# Altium integrated library Linear Technology Power Management Switching Regulator LT1074-LT8705.IntLib: 2252 symbols (part 1 of 148)
Pins are listed as number, name and electrical type; pins without a type are passive.

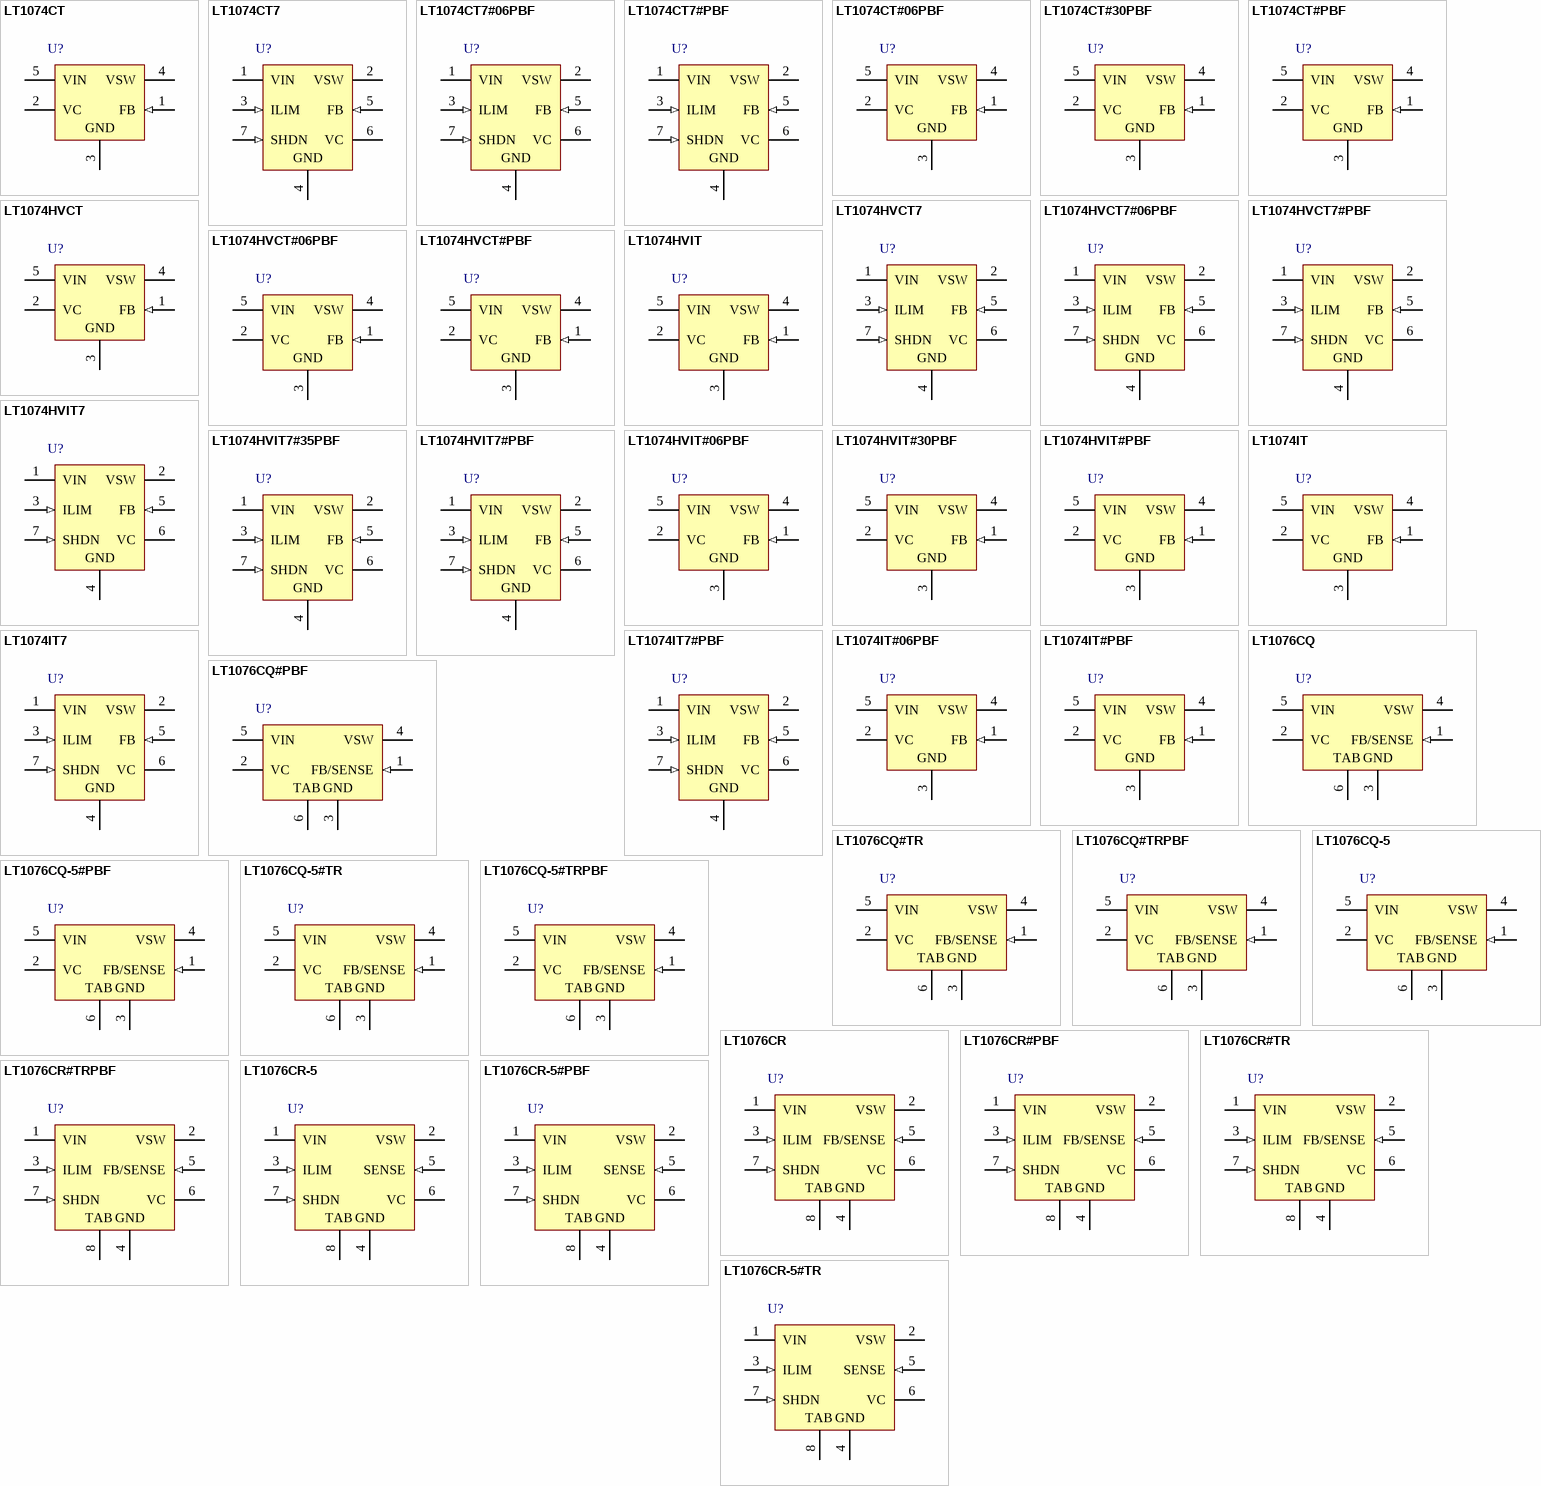
[diagram p0: symbols LT1074CT to LT1076CR-5#TR]

## LT1074CT
designator U?
Step-Down Switching Regulator, 5-pin FM (T-5), 0 to 70 degC; Manufacturer: Linear Technology; PartNumber: LT1074CT; Number of Outputs: 1; DatasheetVersion: Rev. D; PackageVersion: Aug-10; PackageReference: T-5; PackageDescription: 5-Pin Plastic TO-220 (Standard), Body 10.224 x 8.89 mm, Pitch 1.7 mm; Supplier 1: Digi-Key; Supplier Part Number 1: LT1074CT-ND; Supplier 2: Newark; Supplier Part Number 2: 57M1300; RoHS: FALSE; Mounting Technology: Through Hole; ComponentLink1Description: Manufacturer URL; ComponentLink1URL: http://www.linear.com/; ComponentLink2Description: Datasheet; ComponentLink2URL: http://cds.linear.com/docs/en/datasheet/1074fds.pdf; ComponentLink3Description: Package Specification; ComponentLink3URL: http://cds.linear.com/docs/en/packaging/TO-220_5_05-08-1421.pdf
footprint LT-T-5-S (FM, 5-Leads, Body 10.55x4.6mm, Pitch 1.7mm)
pins: 1 FB (in) "The feedback pin is the inverting input of an error amplifier which controls the regulator output by adjusting duty cycle. The noninverting input is internally connected to a trimmed 2.21V reference. Input bias current is (See Datasheet)", 2 VC, 3 GND (power) "It might seem unusual to describe a ground pin, but in the case of regulators, the ground pin must be connected properly to ensure good load regulation. The internal reference voltage is referenced to the ground pin; so any (See Datasheet)", 4 VSW (power), 5 VIN (power) "The VIN pin is both the supply voltage for internal control circuitry and one end of the high current switch. It is important, especially at low input voltages, that this pin be bypassed with a low ESR, and low inductance (See Datasheet)"

## LT1074CT7
designator U?
Step-Down Switching Regulator, 7-pin FM (T7-7), 0 to 70 degC; Manufacturer: Linear Technology; PartNumber: LT1074CT7; Number of Outputs: 1; DatasheetVersion: Rev. D; PackageVersion: Jun-10; PackageReference: T7-7; PackageDescription: 7-Pin Plastic TO-220 (Straight Lead), Body 10.224 x 4.382 mm, Pitch 1.27 mm; Supplier 1: Digi-Key; Supplier Part Number 1: LT1074CT7-ND; RoHS: FALSE; Mounting Technology: Through Hole; ComponentLink1Description: Manufacturer URL; ComponentLink1URL: http://www.linear.com/; ComponentLink2Description: Datasheet; ComponentLink2URL: http://cds.linear.com/docs/en/datasheet/1074fds.pdf; ComponentLink3Description: Package Specification; ComponentLink3URL: http://www.linear.com/docs/en/packaging/TO-220_7_05-08-1422_STRAIGHT_LEAD.pdf
footprint LT-T7-7-S_V (FM, 7-Leads, Body 10.55x4.6mm, Pitch 1.27mm)
pins: 1 VIN (power) "The VIN pin is both the supply voltage for internal control circuitry and one end of the high current switch.", 2 VSW (power), 3 ILIM (in) "The ILIM pin is used to reduce current limit below the preset value of 6.5A.", 4 GND (power) "It might seem unusual to describe a ground pin, but in the case of regulators, the ground pin must be connected properly to ensure good load regulation.", 5 FB (in) "The feedback pin is the inverting input of an error amplifier which controls the regulator output by adjusting duty cycle.", 6 VC, 7 SHDN (in) "The shutdown pin is used for undervoltage lockout, micropower shutdown, soft-start, delayed start, or as a general purpose on/off control of the regulator output."

## LT1074CT7#06PBF
designator U?
Step-Down Switching Regulator, 7-pin FM (T7-7), 0 to 70 degC, Pb-Free; Manufacturer: Linear Technology; PartNumber: LT1074CT7#06PBF; Number of Outputs: 1; DatasheetVersion: Rev. D; PackageVersion: Jun-10; PackageReference: T7-7; PackageDescription: 7-Pin Plastic TO-220 (Straight Lead), Body 10.224 x 4.382 mm, Pitch 1.27 mm; Supplier 1: Digi-Key; Supplier Part Number 1: LT1074CT7#06PBF-ND; Supplier 2: Newark; Supplier Part Number 2: 44W8459; RoHS: TRUE; Mounting Technology: Through Hole; ComponentLink1Description: Manufacturer URL; ComponentLink1URL: http://www.linear.com/; ComponentLink2Description: Datasheet; ComponentLink2URL: http://cds.linear.com/docs/en/datasheet/1074fds.pdf; ComponentLink3Description: Package Specification; ComponentLink3URL: http://www.linear.com/docs/en/packaging/TO-220_7_05-08-1422_STRAIGHT_LEAD.pdf
footprint LT-T7-7-S_V (FM, 7-Leads, Body 10.55x4.6mm, Pitch 1.27mm)
pins: 1 VIN (power) "The VIN pin is both the supply voltage for internal control circuitry and one end of the high current switch.", 2 VSW (power), 3 ILIM (in) "The ILIM pin is used to reduce current limit below the preset value of 6.5A.", 4 GND (power) "It might seem unusual to describe a ground pin, but in the case of regulators, the ground pin must be connected properly to ensure good load regulation.", 5 FB (in) "The feedback pin is the inverting input of an error amplifier which controls the regulator output by adjusting duty cycle.", 6 VC, 7 SHDN (in) "The shutdown pin is used for undervoltage lockout, micropower shutdown, soft-start, delayed start, or as a general purpose on/off control of the regulator output."

## LT1074CT7#PBF
designator U?
Step-Down Switching Regulator, 7-pin FM (T7-7), 0 to 70 degC, Pb-Free; Manufacturer: Linear Technology; PartNumber: LT1074CT7#PBF; Number of Outputs: 1; DatasheetVersion: Rev. D; PackageVersion: Jun-10; PackageReference: T7-7; PackageDescription: 7-Pin Plastic TO-220 (Straight Lead), Body 10.224 x 4.382 mm, Pitch 1.27 mm; Supplier 1: Digi-Key; Supplier Part Number 1: LT1074CT7#PBF-ND; Supplier 2: Farnell; Supplier Part Number 2: 1273665; Supplier 3: Newark; Supplier Part Number 3: 57M1303; RoHS: TRUE; Mounting Technology: Through Hole; ComponentLink1Description: Manufacturer URL; ComponentLink1URL: http://www.linear.com/; ComponentLink2Description: Datasheet; ComponentLink2URL: http://cds.linear.com/docs/en/datasheet/1074fds.pdf; ComponentLink3Description: Package Specification; ComponentLink3URL: http://www.linear.com/docs/en/packaging/TO-220_7_05-08-1422_STRAIGHT_LEAD.pdf
footprint LT-T7-7-S_V (FM, 7-Leads, Body 10.55x4.6mm, Pitch 1.27mm)
pins: 1 VIN (power) "The VIN pin is both the supply voltage for internal control circuitry and one end of the high current switch.", 2 VSW (power), 3 ILIM (in) "The ILIM pin is used to reduce current limit below the preset value of 6.5A.", 4 GND (power) "It might seem unusual to describe a ground pin, but in the case of regulators, the ground pin must be connected properly to ensure good load regulation.", 5 FB (in) "The feedback pin is the inverting input of an error amplifier which controls the regulator output by adjusting duty cycle.", 6 VC, 7 SHDN (in) "The shutdown pin is used for undervoltage lockout, micropower shutdown, soft-start, delayed start, or as a general purpose on/off control of the regulator output."

## LT1074CT#06PBF
designator U?
Step-Down Switching Regulator, 5-pin FM (T-5), 0 to 70 degC, Pb-Free; Manufacturer: Linear Technology; PartNumber: LT1074CT#06PBF; Number of Outputs: 1; DatasheetVersion: Rev. D; PackageVersion: Aug-10; PackageReference: T-5; PackageDescription: 5-Pin Plastic TO-220 (Standard), Body 10.224 x 8.89 mm, Pitch 1.7 mm; Supplier 1: Digi-Key; Supplier Part Number 1: LT1074CT#06PBF-ND; Supplier 2: Newark; Supplier Part Number 2: 44W8458; RoHS: TRUE; Mounting Technology: Through Hole; ComponentLink1Description: Manufacturer URL; ComponentLink1URL: http://www.linear.com/; ComponentLink2Description: Datasheet; ComponentLink2URL: http://cds.linear.com/docs/en/datasheet/1074fds.pdf; ComponentLink3Description: Package Specification; ComponentLink3URL: http://cds.linear.com/docs/en/packaging/TO-220_5_05-08-1421.pdf
footprint LT-T-5-S (FM, 5-Leads, Body 10.55x4.6mm, Pitch 1.7mm)
pins: 1 FB (in) "The feedback pin is the inverting input of an error amplifier which controls the regulator output by adjusting duty cycle. The noninverting input is internally connected to a trimmed 2.21V reference. Input bias current is (See Datasheet)", 2 VC, 3 GND (power) "It might seem unusual to describe a ground pin, but in the case of regulators, the ground pin must be connected properly to ensure good load regulation. The internal reference voltage is referenced to the ground pin; so any (See Datasheet)", 4 VSW (power), 5 VIN (power) "The VIN pin is both the supply voltage for internal control circuitry and one end of the high current switch. It is important, especially at low input voltages, that this pin be bypassed with a low ESR, and low inductance (See Datasheet)"

## LT1074CT#30PBF
designator U?
Step-Down Switching Regulator, 5-pin FM (T-5), 0 to 70 degC, Pb-Free; Manufacturer: Linear Technology; PartNumber: LT1074CT#30PBF; Number of Outputs: 1; DatasheetVersion: Rev. D; PackageVersion: Aug-10; PackageReference: T-5; PackageDescription: 5-Pin Plastic TO-220 (Standard), Body 10.224 x 8.89 mm, Pitch 1.7 mm; Supplier 1: Digi-Key; Supplier Part Number 1: LT1074CT#30PBF-ND; Supplier 2: Newark; Supplier Part Number 2: 94T2254; RoHS: TRUE; Mounting Technology: Through Hole; ComponentLink1Description: Manufacturer URL; ComponentLink1URL: http://www.linear.com/; ComponentLink2Description: Datasheet; ComponentLink2URL: http://cds.linear.com/docs/en/datasheet/1074fds.pdf; ComponentLink3Description: Package Specification; ComponentLink3URL: http://cds.linear.com/docs/en/packaging/TO-220_5_05-08-1421.pdf
footprint LT-T-5-S (FM, 5-Leads, Body 10.55x4.6mm, Pitch 1.7mm)
pins: 1 FB (in) "The feedback pin is the inverting input of an error amplifier which controls the regulator output by adjusting duty cycle. The noninverting input is internally connected to a trimmed 2.21V reference. Input bias current is (See Datasheet)", 2 VC, 3 GND (power) "It might seem unusual to describe a ground pin, but in the case of regulators, the ground pin must be connected properly to ensure good load regulation. The internal reference voltage is referenced to the ground pin; so any (See Datasheet)", 4 VSW (power), 5 VIN (power) "The VIN pin is both the supply voltage for internal control circuitry and one end of the high current switch. It is important, especially at low input voltages, that this pin be bypassed with a low ESR, and low inductance (See Datasheet)"

## LT1074CT#PBF
designator U?
Step-Down Switching Regulator, 5-pin FM (T-5), 0 to 70 degC, Pb-Free; Manufacturer: Linear Technology; PartNumber: LT1074CT#PBF; Number of Outputs: 1; DatasheetVersion: Rev. D; PackageVersion: Aug-10; PackageReference: T-5; PackageDescription: 5-Pin Plastic TO-220 (Standard), Body 10.224 x 8.89 mm, Pitch 1.7 mm; Supplier 1: Digi-Key; Supplier Part Number 1: LT1074CT#PBF-ND; Supplier 2: Farnell; Supplier Part Number 2: 9559604; Supplier 3: Newark; Supplier Part Number 3: 57M1301; RoHS: TRUE; Mounting Technology: Through Hole; ComponentLink1Description: Manufacturer URL; ComponentLink1URL: http://www.linear.com/; ComponentLink2Description: Datasheet; ComponentLink2URL: http://cds.linear.com/docs/en/datasheet/1074fds.pdf; ComponentLink3Description: Package Specification; ComponentLink3URL: http://cds.linear.com/docs/en/packaging/TO-220_5_05-08-1421.pdf
footprint LT-T-5-S (FM, 5-Leads, Body 10.55x4.6mm, Pitch 1.7mm)
pins: 1 FB (in) "The feedback pin is the inverting input of an error amplifier which controls the regulator output by adjusting duty cycle. The noninverting input is internally connected to a trimmed 2.21V reference. Input bias current is (See Datasheet)", 2 VC, 3 GND (power) "It might seem unusual to describe a ground pin, but in the case of regulators, the ground pin must be connected properly to ensure good load regulation. The internal reference voltage is referenced to the ground pin; so any (See Datasheet)", 4 VSW (power), 5 VIN (power) "The VIN pin is both the supply voltage for internal control circuitry and one end of the high current switch. It is important, especially at low input voltages, that this pin be bypassed with a low ESR, and low inductance (See Datasheet)"

## LT1074HVCT
designator U?
Step-Down Switching Regulator, 5-pin FM (T-5), 0 to 70 degC; Manufacturer: Linear Technology; PartNumber: LT1074HVCT; Number of Outputs: 1; DatasheetVersion: Rev. D; PackageVersion: Aug-10; PackageReference: T-5; PackageDescription: 5-Pin Plastic TO-220 (Standard), Body 10.224 x 8.89 mm, Pitch 1.7 mm; Supplier 1: Digi-Key; Supplier Part Number 1: LT1074HVCT-ND; Supplier 2: Newark; Supplier Part Number 2: 57M1305; RoHS: FALSE; Mounting Technology: Through Hole; ComponentLink1Description: Manufacturer URL; ComponentLink1URL: http://www.linear.com/; ComponentLink2Description: Datasheet; ComponentLink2URL: http://cds.linear.com/docs/en/datasheet/1074fds.pdf; ComponentLink3Description: Package Specification; ComponentLink3URL: http://cds.linear.com/docs/en/packaging/TO-220_5_05-08-1421.pdf
footprint LT-T-5-S (FM, 5-Leads, Body 10.55x4.6mm, Pitch 1.7mm)
pins: 1 FB (in) "The feedback pin is the inverting input of an error amplifier which controls the regulator output by adjusting duty cycle. The noninverting input is internally connected to a trimmed 2.21V reference. Input bias current is (See Datasheet)", 2 VC, 3 GND (power) "It might seem unusual to describe a ground pin, but in the case of regulators, the ground pin must be connected properly to ensure good load regulation. The internal reference voltage is referenced to the ground pin; so any (See Datasheet)", 4 VSW (power), 5 VIN (power) "The VIN pin is both the supply voltage for internal control circuitry and one end of the high current switch. It is important, especially at low input voltages, that this pin be bypassed with a low ESR, and low inductance (See Datasheet)"

## LT1074HVCT7
designator U?
Step-Down Switching Regulator, 7-pin FM (T7-7), 0 to 70 degC; Manufacturer: Linear Technology; PartNumber: LT1074HVCT7; Number of Outputs: 1; DatasheetVersion: Rev. D; PackageVersion: Jun-10; PackageReference: T7-7; PackageDescription: 7-Pin Plastic TO-220 (Straight Lead), Body 10.224 x 4.382 mm, Pitch 1.27 mm; Supplier 1: Digi-Key; Supplier Part Number 1: LT1074HVCT7-ND; RoHS: FALSE; Mounting Technology: Through Hole; ComponentLink1Description: Manufacturer URL; ComponentLink1URL: http://www.linear.com/; ComponentLink2Description: Datasheet; ComponentLink2URL: http://cds.linear.com/docs/en/datasheet/1074fds.pdf; ComponentLink3Description: Package Specification; ComponentLink3URL: http://www.linear.com/docs/en/packaging/TO-220_7_05-08-1422_STRAIGHT_LEAD.pdf
footprint LT-T7-7-S_V (FM, 7-Leads, Body 10.55x4.6mm, Pitch 1.27mm)
pins: 1 VIN (power) "The VIN pin is both the supply voltage for internal control circuitry and one end of the high current switch.", 2 VSW (power), 3 ILIM (in) "The ILIM pin is used to reduce current limit below the preset value of 6.5A.", 4 GND (power) "It might seem unusual to describe a ground pin, but in the case of regulators, the ground pin must be connected properly to ensure good load regulation.", 5 FB (in) "The feedback pin is the inverting input of an error amplifier which controls the regulator output by adjusting duty cycle.", 6 VC, 7 SHDN (in) "The shutdown pin is used for undervoltage lockout, micropower shutdown, soft-start, delayed start, or as a general purpose on/off control of the regulator output."

## LT1074HVCT7#06PBF
designator U?
Step-Down Switching Regulator, 7-pin FM (T7-7), 0 to 70 degC, Pb-Free; Manufacturer: Linear Technology; PartNumber: LT1074HVCT7#06PBF; Number of Outputs: 1; DatasheetVersion: Rev. D; PackageVersion: Jun-10; PackageReference: T7-7; PackageDescription: 7-Pin Plastic TO-220 (Straight Lead), Body 10.224 x 4.382 mm, Pitch 1.27 mm; Supplier 1: Digi-Key; Supplier Part Number 1: LT1074HVCT7#06PBF-ND; Supplier 2: Newark; Supplier Part Number 2: 44W8460; RoHS: TRUE; Mounting Technology: Through Hole; ComponentLink1Description: Manufacturer URL; ComponentLink1URL: http://www.linear.com/; ComponentLink2Description: Datasheet; ComponentLink2URL: http://cds.linear.com/docs/en/datasheet/1074fds.pdf; ComponentLink3Description: Package Specification; ComponentLink3URL: http://www.linear.com/docs/en/packaging/TO-220_7_05-08-1422_STRAIGHT_LEAD.pdf
footprint LT-T7-7-S_V (FM, 7-Leads, Body 10.55x4.6mm, Pitch 1.27mm)
pins: 1 VIN (power) "The VIN pin is both the supply voltage for internal control circuitry and one end of the high current switch.", 2 VSW (power), 3 ILIM (in) "The ILIM pin is used to reduce current limit below the preset value of 6.5A.", 4 GND (power) "It might seem unusual to describe a ground pin, but in the case of regulators, the ground pin must be connected properly to ensure good load regulation.", 5 FB (in) "The feedback pin is the inverting input of an error amplifier which controls the regulator output by adjusting duty cycle.", 6 VC, 7 SHDN (in) "The shutdown pin is used for undervoltage lockout, micropower shutdown, soft-start, delayed start, or as a general purpose on/off control of the regulator output."

## LT1074HVCT7#PBF
designator U?
Step-Down Switching Regulator, 7-pin FM (T7-7), 0 to 70 degC, Pb-Free; Manufacturer: Linear Technology; PartNumber: LT1074HVCT7#PBF; Number of Outputs: 1; DatasheetVersion: Rev. D; PackageVersion: Jun-10; PackageReference: T7-7; PackageDescription: 7-Pin Plastic TO-220 (Straight Lead), Body 10.224 x 4.382 mm, Pitch 1.27 mm; Supplier 1: Digi-Key; Supplier Part Number 1: LT1074HVCT7#PBF-ND; Supplier 2: Farnell; Supplier Part Number 2: 2115854; Supplier 3: Newark; Supplier Part Number 3: 57M1310; RoHS: TRUE; Mounting Technology: Through Hole; ComponentLink1Description: Manufacturer URL; ComponentLink1URL: http://www.linear.com/; ComponentLink2Description: Datasheet; ComponentLink2URL: http://cds.linear.com/docs/en/datasheet/1074fds.pdf; ComponentLink3Description: Package Specification; ComponentLink3URL: http://www.linear.com/docs/en/packaging/TO-220_7_05-08-1422_STRAIGHT_LEAD.pdf
footprint LT-T7-7-S_V (FM, 7-Leads, Body 10.55x4.6mm, Pitch 1.27mm)
pins: 1 VIN (power) "The VIN pin is both the supply voltage for internal control circuitry and one end of the high current switch.", 2 VSW (power), 3 ILIM (in) "The ILIM pin is used to reduce current limit below the preset value of 6.5A.", 4 GND (power) "It might seem unusual to describe a ground pin, but in the case of regulators, the ground pin must be connected properly to ensure good load regulation.", 5 FB (in) "The feedback pin is the inverting input of an error amplifier which controls the regulator output by adjusting duty cycle.", 6 VC, 7 SHDN (in) "The shutdown pin is used for undervoltage lockout, micropower shutdown, soft-start, delayed start, or as a general purpose on/off control of the regulator output."

## LT1074HVCT#06PBF
designator U?
Step-Down Switching Regulator, 5-pin FM (T-5), 0 to 70 degC, Pb-Free; Manufacturer: Linear Technology; PartNumber: LT1074HVCT#06PBF; Number of Outputs: 1; DatasheetVersion: Rev. D; PackageVersion: Aug-10; PackageReference: T-5; PackageDescription: 5-Pin Plastic TO-220 (Standard), Body 10.224 x 8.89 mm, Pitch 1.7 mm; Supplier 1: Digi-Key; Supplier Part Number 1: LT1074HVCT#06PBF-ND; Supplier 2: Farnell; Supplier Part Number 2: 2211402; Supplier 3: Newark; Supplier Part Number 3: 57M1308; RoHS: TRUE; Mounting Technology: Through Hole; ComponentLink1Description: Manufacturer URL; ComponentLink1URL: http://www.linear.com/; ComponentLink2Description: Datasheet; ComponentLink2URL: http://cds.linear.com/docs/en/datasheet/1074fds.pdf; ComponentLink3Description: Package Specification; ComponentLink3URL: http://cds.linear.com/docs/en/packaging/TO-220_5_05-08-1421.pdf
footprint LT-T-5-S (FM, 5-Leads, Body 10.55x4.6mm, Pitch 1.7mm)
pins: 1 FB (in) "The feedback pin is the inverting input of an error amplifier which controls the regulator output by adjusting duty cycle. The noninverting input is internally connected to a trimmed 2.21V reference. Input bias current is (See Datasheet)", 2 VC, 3 GND (power) "It might seem unusual to describe a ground pin, but in the case of regulators, the ground pin must be connected properly to ensure good load regulation. The internal reference voltage is referenced to the ground pin; so any (See Datasheet)", 4 VSW (power), 5 VIN (power) "The VIN pin is both the supply voltage for internal control circuitry and one end of the high current switch. It is important, especially at low input voltages, that this pin be bypassed with a low ESR, and low inductance (See Datasheet)"

## LT1074HVCT#PBF
designator U?
Step-Down Switching Regulator, 5-pin FM (T-5), 0 to 70 degC, Pb-Free; Manufacturer: Linear Technology; PartNumber: LT1074HVCT#PBF; Number of Outputs: 1; DatasheetVersion: Rev. D; PackageVersion: Aug-10; PackageReference: T-5; PackageDescription: 5-Pin Plastic TO-220 (Standard), Body 10.224 x 8.89 mm, Pitch 1.7 mm; Supplier 1: Digi-Key; Supplier Part Number 1: LT1074HVCT#PBF-ND; Supplier 2: Farnell; Supplier Part Number 2: 9559612; Supplier 3: Newark; Supplier Part Number 3: 57M1306; RoHS: TRUE; Mounting Technology: Through Hole; ComponentLink1Description: Manufacturer URL; ComponentLink1URL: http://www.linear.com/; ComponentLink2Description: Datasheet; ComponentLink2URL: http://cds.linear.com/docs/en/datasheet/1074fds.pdf; ComponentLink3Description: Package Specification; ComponentLink3URL: http://cds.linear.com/docs/en/packaging/TO-220_5_05-08-1421.pdf
footprint LT-T-5-S (FM, 5-Leads, Body 10.55x4.6mm, Pitch 1.7mm)
pins: 1 FB (in) "The feedback pin is the inverting input of an error amplifier which controls the regulator output by adjusting duty cycle. The noninverting input is internally connected to a trimmed 2.21V reference. Input bias current is (See Datasheet)", 2 VC, 3 GND (power) "It might seem unusual to describe a ground pin, but in the case of regulators, the ground pin must be connected properly to ensure good load regulation. The internal reference voltage is referenced to the ground pin; so any (See Datasheet)", 4 VSW (power), 5 VIN (power) "The VIN pin is both the supply voltage for internal control circuitry and one end of the high current switch. It is important, especially at low input voltages, that this pin be bypassed with a low ESR, and low inductance (See Datasheet)"

## LT1074HVIT
designator U?
Step-Down Switching Regulator, 5-pin FM (T-5), -40 to 85 degC; Manufacturer: Linear Technology; PartNumber: LT1074HVIT; Number of Outputs: 1; DatasheetVersion: Rev. D; PackageVersion: Aug-10; PackageReference: T-5; PackageDescription: 5-Pin Plastic TO-220 (Standard), Body 10.224 x 8.89 mm, Pitch 1.7 mm; Supplier 1: Digi-Key; Supplier Part Number 1: LT1074HVIT-ND; RoHS: FALSE; Mounting Technology: Through Hole; ComponentLink1Description: Manufacturer URL; ComponentLink1URL: http://www.linear.com/; ComponentLink2Description: Datasheet; ComponentLink2URL: http://cds.linear.com/docs/en/datasheet/1074fds.pdf; ComponentLink3Description: Package Specification; ComponentLink3URL: http://cds.linear.com/docs/en/packaging/TO-220_5_05-08-1421.pdf
footprint LT-T-5-S (FM, 5-Leads, Body 10.55x4.6mm, Pitch 1.7mm)
pins: 1 FB (in) "The feedback pin is the inverting input of an error amplifier which controls the regulator output by adjusting duty cycle. The noninverting input is internally connected to a trimmed 2.21V reference. Input bias current is (See Datasheet)", 2 VC, 3 GND (power) "It might seem unusual to describe a ground pin, but in the case of regulators, the ground pin must be connected properly to ensure good load regulation. The internal reference voltage is referenced to the ground pin; so any (See Datasheet)", 4 VSW (power), 5 VIN (power) "The VIN pin is both the supply voltage for internal control circuitry and one end of the high current switch. It is important, especially at low input voltages, that this pin be bypassed with a low ESR, and low inductance (See Datasheet)"

## LT1074HVIT7
designator U?
Step-Down Switching Regulator, 7-pin FM (T7-7), -40 to 85 degC; Manufacturer: Linear Technology; PartNumber: LT1074HVIT7; Number of Outputs: 1; DatasheetVersion: Rev. D; PackageVersion: Jun-10; PackageReference: T7-7; PackageDescription: 7-Pin Plastic TO-220 (Straight Lead), Body 10.224 x 4.382 mm, Pitch 1.27 mm; Supplier 1: Digi-Key; Supplier Part Number 1: LT1074HVIT7-ND; RoHS: FALSE; Mounting Technology: Through Hole; ComponentLink1Description: Manufacturer URL; ComponentLink1URL: http://www.linear.com/; ComponentLink2Description: Datasheet; ComponentLink2URL: http://cds.linear.com/docs/en/datasheet/1074fds.pdf; ComponentLink3Description: Package Specification; ComponentLink3URL: http://www.linear.com/docs/en/packaging/TO-220_7_05-08-1422_STRAIGHT_LEAD.pdf
footprint LT-T7-7-S_V (FM, 7-Leads, Body 10.55x4.6mm, Pitch 1.27mm)
pins: 1 VIN (power) "The VIN pin is both the supply voltage for internal control circuitry and one end of the high current switch.", 2 VSW (power), 3 ILIM (in) "The ILIM pin is used to reduce current limit below the preset value of 6.5A.", 4 GND (power) "It might seem unusual to describe a ground pin, but in the case of regulators, the ground pin must be connected properly to ensure good load regulation.", 5 FB (in) "The feedback pin is the inverting input of an error amplifier which controls the regulator output by adjusting duty cycle.", 6 VC, 7 SHDN (in) "The shutdown pin is used for undervoltage lockout, micropower shutdown, soft-start, delayed start, or as a general purpose on/off control of the regulator output."

## LT1074HVIT7#35PBF
designator U?
Step-Down Switching Regulator, 7-pin FM (T7-7), -40 to 85 degC, Pb-Free; Manufacturer: Linear Technology; PartNumber: LT1074HVIT7#35PBF; Number of Outputs: 1; DatasheetVersion: Rev. D; PackageVersion: Jun-10; PackageReference: T7-7; PackageDescription: 7-Pin Plastic TO-220 (Straight Lead), Body 10.224 x 4.382 mm, Pitch 1.27 mm; Supplier 1: Digi-Key; Supplier Part Number 1: LT1074HVIT7#35PBF-ND; Supplier 2: Newark; Supplier Part Number 2: 87T9237; RoHS: TRUE; Mounting Technology: Through Hole; ComponentLink1Description: Manufacturer URL; ComponentLink1URL: http://www.linear.com/; ComponentLink2Description: Datasheet; ComponentLink2URL: http://cds.linear.com/docs/en/datasheet/1074fds.pdf; ComponentLink3Description: Package Specification; ComponentLink3URL: http://www.linear.com/docs/en/packaging/TO-220_7_05-08-1422_STRAIGHT_LEAD.pdf
footprint LT-T7-7-S_V (FM, 7-Leads, Body 10.55x4.6mm, Pitch 1.27mm)
pins: 1 VIN (power) "The VIN pin is both the supply voltage for internal control circuitry and one end of the high current switch.", 2 VSW (power), 3 ILIM (in) "The ILIM pin is used to reduce current limit below the preset value of 6.5A.", 4 GND (power) "It might seem unusual to describe a ground pin, but in the case of regulators, the ground pin must be connected properly to ensure good load regulation.", 5 FB (in) "The feedback pin is the inverting input of an error amplifier which controls the regulator output by adjusting duty cycle.", 6 VC, 7 SHDN (in) "The shutdown pin is used for undervoltage lockout, micropower shutdown, soft-start, delayed start, or as a general purpose on/off control of the regulator output."

## LT1074HVIT7#PBF
designator U?
Step-Down Switching Regulator, 7-pin FM (T7-7), -40 to 85 degC, Pb-Free; Manufacturer: Linear Technology; PartNumber: LT1074HVIT7#PBF; Number of Outputs: 1; DatasheetVersion: Rev. D; PackageVersion: Jun-10; PackageReference: T7-7; PackageDescription: 7-Pin Plastic TO-220 (Straight Lead), Body 10.224 x 4.382 mm, Pitch 1.27 mm; Supplier 1: Digi-Key; Supplier Part Number 1: LT1074HVIT7#PBF-ND; Supplier 2: Farnell; Supplier Part Number 2: 2211406; Supplier 3: Newark; Supplier Part Number 3: 57M1316; RoHS: TRUE; Mounting Technology: Through Hole; ComponentLink1Description: Manufacturer URL; ComponentLink1URL: http://www.linear.com/; ComponentLink2Description: Datasheet; ComponentLink2URL: http://cds.linear.com/docs/en/datasheet/1074fds.pdf; ComponentLink3Description: Package Specification; ComponentLink3URL: http://www.linear.com/docs/en/packaging/TO-220_7_05-08-1422_STRAIGHT_LEAD.pdf
footprint LT-T7-7-S_V (FM, 7-Leads, Body 10.55x4.6mm, Pitch 1.27mm)
pins: 1 VIN (power) "The VIN pin is both the supply voltage for internal control circuitry and one end of the high current switch.", 2 VSW (power), 3 ILIM (in) "The ILIM pin is used to reduce current limit below the preset value of 6.5A.", 4 GND (power) "It might seem unusual to describe a ground pin, but in the case of regulators, the ground pin must be connected properly to ensure good load regulation.", 5 FB (in) "The feedback pin is the inverting input of an error amplifier which controls the regulator output by adjusting duty cycle.", 6 VC, 7 SHDN (in) "The shutdown pin is used for undervoltage lockout, micropower shutdown, soft-start, delayed start, or as a general purpose on/off control of the regulator output."

## LT1074HVIT#06PBF
designator U?
Step-Down Switching Regulator, 5-pin FM (T-5), -40 to 85 degC, Pb-Free; Manufacturer: Linear Technology; PartNumber: LT1074HVIT#06PBF; Number of Outputs: 1; DatasheetVersion: Rev. D; PackageVersion: Aug-10; PackageReference: T-5; PackageDescription: 5-Pin Plastic TO-220 (Standard), Body 10.224 x 8.89 mm, Pitch 1.7 mm; Supplier 1: Digi-Key; Supplier Part Number 1: LT1074HVIT#06PBF-ND; Supplier 2: Farnell; Supplier Part Number 2: 2211404; Supplier 3: Newark; Supplier Part Number 3: 24W8465; RoHS: TRUE; Mounting Technology: Through Hole; ComponentLink1Description: Manufacturer URL; ComponentLink1URL: http://www.linear.com/; ComponentLink2Description: Datasheet; ComponentLink2URL: http://cds.linear.com/docs/en/datasheet/1074fds.pdf; ComponentLink3Description: Package Specification; ComponentLink3URL: http://cds.linear.com/docs/en/packaging/TO-220_5_05-08-1421.pdf
footprint LT-T-5-S (FM, 5-Leads, Body 10.55x4.6mm, Pitch 1.7mm)
pins: 1 FB (in) "The feedback pin is the inverting input of an error amplifier which controls the regulator output by adjusting duty cycle. The noninverting input is internally connected to a trimmed 2.21V reference. Input bias current is (See Datasheet)", 2 VC, 3 GND (power) "It might seem unusual to describe a ground pin, but in the case of regulators, the ground pin must be connected properly to ensure good load regulation. The internal reference voltage is referenced to the ground pin; so any (See Datasheet)", 4 VSW (power), 5 VIN (power) "The VIN pin is both the supply voltage for internal control circuitry and one end of the high current switch. It is important, especially at low input voltages, that this pin be bypassed with a low ESR, and low inductance (See Datasheet)"

## LT1074HVIT#30PBF
designator U?
Step-Down Switching Regulator, 5-pin FM (T-5), -40 to 85 degC, Pb-Free; Manufacturer: Linear Technology; PartNumber: LT1074HVIT#30PBF; Number of Outputs: 1; DatasheetVersion: Rev. D; PackageVersion: Aug-10; PackageReference: T-5; PackageDescription: 5-Pin Plastic TO-220 (Standard), Body 10.224 x 8.89 mm, Pitch 1.7 mm; Supplier 1: Digi-Key; Supplier Part Number 1: LT1074HVIT#30PBF-ND; RoHS: TRUE; Mounting Technology: Through Hole; ComponentLink1Description: Manufacturer URL; ComponentLink1URL: http://www.linear.com/; ComponentLink2Description: Datasheet; ComponentLink2URL: http://cds.linear.com/docs/en/datasheet/1074fds.pdf; ComponentLink3Description: Package Specification; ComponentLink3URL: http://cds.linear.com/docs/en/packaging/TO-220_5_05-08-1421.pdf
footprint LT-T-5-S (FM, 5-Leads, Body 10.55x4.6mm, Pitch 1.7mm)
pins: 1 FB (in) "The feedback pin is the inverting input of an error amplifier which controls the regulator output by adjusting duty cycle. The noninverting input is internally connected to a trimmed 2.21V reference. Input bias current is (See Datasheet)", 2 VC, 3 GND (power) "It might seem unusual to describe a ground pin, but in the case of regulators, the ground pin must be connected properly to ensure good load regulation. The internal reference voltage is referenced to the ground pin; so any (See Datasheet)", 4 VSW (power), 5 VIN (power) "The VIN pin is both the supply voltage for internal control circuitry and one end of the high current switch. It is important, especially at low input voltages, that this pin be bypassed with a low ESR, and low inductance (See Datasheet)"

## LT1074HVIT#PBF
designator U?
Step-Down Switching Regulator, 5-pin FM (T-5), -40 to 85 degC, Pb-Free; Manufacturer: Linear Technology; PartNumber: LT1074HVIT#PBF; Number of Outputs: 1; DatasheetVersion: Rev. D; PackageVersion: Aug-10; PackageReference: T-5; PackageDescription: 5-Pin Plastic TO-220 (Standard), Body 10.224 x 8.89 mm, Pitch 1.7 mm; Supplier 1: Digi-Key; Supplier Part Number 1: LT1074HVIT#PBF-ND; Supplier 2: Farnell; Supplier Part Number 2: 2211405; Supplier 3: Newark; Supplier Part Number 3: 57M1314; RoHS: TRUE; Mounting Technology: Through Hole; ComponentLink1Description: Manufacturer URL; ComponentLink1URL: http://www.linear.com/; ComponentLink2Description: Datasheet; ComponentLink2URL: http://cds.linear.com/docs/en/datasheet/1074fds.pdf; ComponentLink3Description: Package Specification; ComponentLink3URL: http://cds.linear.com/docs/en/packaging/TO-220_5_05-08-1421.pdf
footprint LT-T-5-S (FM, 5-Leads, Body 10.55x4.6mm, Pitch 1.7mm)
pins: 1 FB (in) "The feedback pin is the inverting input of an error amplifier which controls the regulator output by adjusting duty cycle. The noninverting input is internally connected to a trimmed 2.21V reference. Input bias current is (See Datasheet)", 2 VC, 3 GND (power) "It might seem unusual to describe a ground pin, but in the case of regulators, the ground pin must be connected properly to ensure good load regulation. The internal reference voltage is referenced to the ground pin; so any (See Datasheet)", 4 VSW (power), 5 VIN (power) "The VIN pin is both the supply voltage for internal control circuitry and one end of the high current switch. It is important, especially at low input voltages, that this pin be bypassed with a low ESR, and low inductance (See Datasheet)"

## LT1074IT
designator U?
Step-Down Switching Regulator, 5-pin FM (T-5), -40 to 85 degC; Manufacturer: Linear Technology; PartNumber: LT1074IT; Number of Outputs: 1; DatasheetVersion: Rev. D; PackageVersion: Aug-10; PackageReference: T-5; PackageDescription: 5-Pin Plastic TO-220 (Standard), Body 10.224 x 8.89 mm, Pitch 1.7 mm; Supplier 1: Digi-Key; Supplier Part Number 1: LT1074IT-ND; RoHS: FALSE; Mounting Technology: Through Hole; ComponentLink1Description: Manufacturer URL; ComponentLink1URL: http://www.linear.com/; ComponentLink2Description: Datasheet; ComponentLink2URL: http://cds.linear.com/docs/en/datasheet/1074fds.pdf; ComponentLink3Description: Package Specification; ComponentLink3URL: http://cds.linear.com/docs/en/packaging/TO-220_5_05-08-1421.pdf
footprint LT-T-5-S (FM, 5-Leads, Body 10.55x4.6mm, Pitch 1.7mm)
pins: 1 FB (in) "The feedback pin is the inverting input of an error amplifier which controls the regulator output by adjusting duty cycle. The noninverting input is internally connected to a trimmed 2.21V reference. Input bias current is (See Datasheet)", 2 VC, 3 GND (power) "It might seem unusual to describe a ground pin, but in the case of regulators, the ground pin must be connected properly to ensure good load regulation. The internal reference voltage is referenced to the ground pin; so any (See Datasheet)", 4 VSW (power), 5 VIN (power) "The VIN pin is both the supply voltage for internal control circuitry and one end of the high current switch. It is important, especially at low input voltages, that this pin be bypassed with a low ESR, and low inductance (See Datasheet)"

## LT1074IT7
designator U?
Step-Down Switching Regulator, 7-pin FM (T7-7), -40 to 85 degC; Manufacturer: Linear Technology; PartNumber: LT1074IT7; Number of Outputs: 1; DatasheetVersion: Rev. D; PackageVersion: Jun-10; PackageReference: T7-7; PackageDescription: 7-Pin Plastic TO-220 (Straight Lead), Body 10.224 x 4.382 mm, Pitch 1.27 mm; Supplier 1: Digi-Key; Supplier Part Number 1: LT1074IT7-ND; RoHS: FALSE; Mounting Technology: Through Hole; ComponentLink1Description: Manufacturer URL; ComponentLink1URL: http://www.linear.com/; ComponentLink2Description: Datasheet; ComponentLink2URL: http://cds.linear.com/docs/en/datasheet/1074fds.pdf; ComponentLink3Description: Package Specification; ComponentLink3URL: http://www.linear.com/docs/en/packaging/TO-220_7_05-08-1422_STRAIGHT_LEAD.pdf
footprint LT-T7-7-S_V (FM, 7-Leads, Body 10.55x4.6mm, Pitch 1.27mm)
pins: 1 VIN (power) "The VIN pin is both the supply voltage for internal control circuitry and one end of the high current switch.", 2 VSW (power), 3 ILIM (in) "The ILIM pin is used to reduce current limit below the preset value of 6.5A.", 4 GND (power) "It might seem unusual to describe a ground pin, but in the case of regulators, the ground pin must be connected properly to ensure good load regulation.", 5 FB (in) "The feedback pin is the inverting input of an error amplifier which controls the regulator output by adjusting duty cycle.", 6 VC, 7 SHDN (in) "The shutdown pin is used for undervoltage lockout, micropower shutdown, soft-start, delayed start, or as a general purpose on/off control of the regulator output."

## LT1074IT7#PBF
designator U?
Step-Down Switching Regulator, 7-pin FM (T7-7), -40 to 85 degC, Pb-Free; Manufacturer: Linear Technology; PartNumber: LT1074IT7#PBF; Number of Outputs: 1; DatasheetVersion: Rev. D; PackageVersion: Jun-10; PackageReference: T7-7; PackageDescription: 7-Pin Plastic TO-220 (Straight Lead), Body 10.224 x 4.382 mm, Pitch 1.27 mm; Supplier 1: Digi-Key; Supplier Part Number 1: LT1074IT7#PBF-ND; Supplier 2: Farnell; Supplier Part Number 2: 2211408; Supplier 3: Newark; Supplier Part Number 3: 57M1321; RoHS: TRUE; Mounting Technology: Through Hole; ComponentLink1Description: Manufacturer URL; ComponentLink1URL: http://www.linear.com/; ComponentLink2Description: Datasheet; ComponentLink2URL: http://cds.linear.com/docs/en/datasheet/1074fds.pdf; ComponentLink3Description: Package Specification; ComponentLink3URL: http://www.linear.com/docs/en/packaging/TO-220_7_05-08-1422_STRAIGHT_LEAD.pdf
footprint LT-T7-7-S_V (FM, 7-Leads, Body 10.55x4.6mm, Pitch 1.27mm)
pins: 1 VIN (power) "The VIN pin is both the supply voltage for internal control circuitry and one end of the high current switch.", 2 VSW (power), 3 ILIM (in) "The ILIM pin is used to reduce current limit below the preset value of 6.5A.", 4 GND (power) "It might seem unusual to describe a ground pin, but in the case of regulators, the ground pin must be connected properly to ensure good load regulation.", 5 FB (in) "The feedback pin is the inverting input of an error amplifier which controls the regulator output by adjusting duty cycle.", 6 VC, 7 SHDN (in) "The shutdown pin is used for undervoltage lockout, micropower shutdown, soft-start, delayed start, or as a general purpose on/off control of the regulator output."

## LT1074IT#06PBF
designator U?
Step-Down Switching Regulator, 5-pin FM (T-5), -40 to 85 degC, Pb-Free; Manufacturer: Linear Technology; PartNumber: LT1074IT#06PBF; Number of Outputs: 1; DatasheetVersion: Rev. D; PackageVersion: Aug-10; PackageReference: T-5; PackageDescription: 5-Pin Plastic TO-220 (Standard), Body 10.224 x 8.89 mm, Pitch 1.7 mm; Supplier 1: Digi-Key; Supplier Part Number 1: LT1074IT#06PBF-ND; Supplier 2: Farnell; Supplier Part Number 2: 2211407; Supplier 3: Newark; Supplier Part Number 3: 75M4622; RoHS: TRUE; Mounting Technology: Through Hole; ComponentLink1Description: Manufacturer URL; ComponentLink1URL: http://www.linear.com/; ComponentLink2Description: Datasheet; ComponentLink2URL: http://cds.linear.com/docs/en/datasheet/1074fds.pdf; ComponentLink3Description: Package Specification; ComponentLink3URL: http://cds.linear.com/docs/en/packaging/TO-220_5_05-08-1421.pdf
footprint LT-T-5-S (FM, 5-Leads, Body 10.55x4.6mm, Pitch 1.7mm)
pins: 1 FB (in) "The feedback pin is the inverting input of an error amplifier which controls the regulator output by adjusting duty cycle. The noninverting input is internally connected to a trimmed 2.21V reference. Input bias current is (See Datasheet)", 2 VC, 3 GND (power) "It might seem unusual to describe a ground pin, but in the case of regulators, the ground pin must be connected properly to ensure good load regulation. The internal reference voltage is referenced to the ground pin; so any (See Datasheet)", 4 VSW (power), 5 VIN (power) "The VIN pin is both the supply voltage for internal control circuitry and one end of the high current switch. It is important, especially at low input voltages, that this pin be bypassed with a low ESR, and low inductance (See Datasheet)"

## LT1074IT#PBF
designator U?
Step-Down Switching Regulator, 5-pin FM (T-5), -40 to 85 degC, Pb-Free; Manufacturer: Linear Technology; PartNumber: LT1074IT#PBF; Number of Outputs: 1; DatasheetVersion: Rev. D; PackageVersion: Aug-10; PackageReference: T-5; PackageDescription: 5-Pin Plastic TO-220 (Standard), Body 10.224 x 8.89 mm, Pitch 1.7 mm; Supplier 1: Digi-Key; Supplier Part Number 1: LT1074IT#PBF-ND; Supplier 2: Farnell; Supplier Part Number 2: 9559620; Supplier 3: Newark; Supplier Part Number 3: 57M1318; RoHS: TRUE; Mounting Technology: Through Hole; ComponentLink1Description: Manufacturer URL; ComponentLink1URL: http://www.linear.com/; ComponentLink2Description: Datasheet; ComponentLink2URL: http://cds.linear.com/docs/en/datasheet/1074fds.pdf; ComponentLink3Description: Package Specification; ComponentLink3URL: http://cds.linear.com/docs/en/packaging/TO-220_5_05-08-1421.pdf
footprint LT-T-5-S (FM, 5-Leads, Body 10.55x4.6mm, Pitch 1.7mm)
pins: 1 FB (in) "The feedback pin is the inverting input of an error amplifier which controls the regulator output by adjusting duty cycle. The noninverting input is internally connected to a trimmed 2.21V reference. Input bias current is (See Datasheet)", 2 VC, 3 GND (power) "It might seem unusual to describe a ground pin, but in the case of regulators, the ground pin must be connected properly to ensure good load regulation. The internal reference voltage is referenced to the ground pin; so any (See Datasheet)", 4 VSW (power), 5 VIN (power) "The VIN pin is both the supply voltage for internal control circuitry and one end of the high current switch. It is important, especially at low input voltages, that this pin be bypassed with a low ESR, and low inductance (See Datasheet)"

## LT1076CQ
designator U?
Step-Down Switching Regulator, 5-pin DPAK (Q-5), 0 to 70 degC; Manufacturer: Linear Technology; PartNumber: LT1076CQ; Number of Outputs: 1; DatasheetVersion: Rev. D; PackageVersion: Rev. F, 09/2011; PackageReference: Q-5; PackageDescription: 5-Pin Plastic DD Pak, Body 10.2235 x 8.89 mm, Pitch 1.702 mm; Supplier 1: Digi-Key; Supplier Part Number 1: LT1076CQ-ND; RoHS: FALSE; Mounting Technology: Surface Mount; ComponentLink1Description: Manufacturer URL; ComponentLink1URL: http://www.linear.com/; ComponentLink2Description: Datasheet; ComponentLink2URL: http://cds.linear.com/docs/en/datasheet/1074fds.pdf; ComponentLink3Description: Package Specification; ComponentLink3URL: http://cds.linear.com/docs/en/packaging/Q%20DD5%2005-08-1461%20Rev%20F.pdf
footprint LT-Q-5_N (DPAK, 5-Leads, Body 10.22x8.89mm, Pitch 1.702mm, IPC Medium Density)
footprint LT-Q-5_L (DPAK, 5-Leads, Body 10.22x8.89mm, Pitch 1.702mm, IPC High Density)
footprint LT-Q-5_M (DPAK, 5-Leads, Body 10.22x8.89mm, Pitch 1.702mm, IPC Low Density)
pins: 1 FB/SENSE (in), 2 VC, 3 GND (power) "It might seem unusual to describe a ground pin, but in the case of regulators, the ground pin must be connected properly to ensure good load regulation. The internal reference voltage is referenced to the ground pin; so any (See Datasheet)", 4 VSW (power), 5 VIN (power) "The VIN pin is both the supply voltage for internal control circuitry and one end of the high current switch. It is important, especially at low input voltages, that this pin be bypassed with a low ESR, and low inductance (See Datasheet)", 6 TAB (power) "It might seem unusual to describe a ground pin, but in the case of regulators, the ground pin must be connected properly to ensure good load regulation. The internal reference voltage is referenced to the ground pin; so any (See Datasheet)"

## LT1076CQ#PBF
designator U?
Step-Down Switching Regulator, 5-pin DPAK (Q-5), 0 to 70 degC, Pb-Free; Manufacturer: Linear Technology; PartNumber: LT1076CQ#PBF; Number of Outputs: 1; DatasheetVersion: Rev. D; PackageVersion: Rev. F, 09/2011; PackageReference: Q-5; PackageDescription: 5-Pin Plastic DD Pak, Body 10.2235 x 8.89 mm, Pitch 1.702 mm; Supplier 1: Digi-Key; Supplier Part Number 1: LT1076CQ#PBF-ND; Supplier 2: Farnell; Supplier Part Number 2: 9559639; Supplier 3: Newark; Supplier Part Number 3: 57M1327; RoHS: TRUE; Mounting Technology: Surface Mount; ComponentLink1Description: Manufacturer URL; ComponentLink1URL: http://www.linear.com/; ComponentLink2Description: Datasheet; ComponentLink2URL: http://cds.linear.com/docs/en/datasheet/1074fds.pdf; ComponentLink3Description: Package Specification; ComponentLink3URL: http://cds.linear.com/docs/en/packaging/Q%20DD5%2005-08-1461%20Rev%20F.pdf
footprint LT-Q-5_N (DPAK, 5-Leads, Body 10.22x8.89mm, Pitch 1.702mm, IPC Medium Density)
footprint LT-Q-5_L (DPAK, 5-Leads, Body 10.22x8.89mm, Pitch 1.702mm, IPC High Density)
footprint LT-Q-5_M (DPAK, 5-Leads, Body 10.22x8.89mm, Pitch 1.702mm, IPC Low Density)
pins: 1 FB/SENSE (in), 2 VC, 3 GND (power) "It might seem unusual to describe a ground pin, but in the case of regulators, the ground pin must be connected properly to ensure good load regulation. The internal reference voltage is referenced to the ground pin; so any (See Datasheet)", 4 VSW (power), 5 VIN (power) "The VIN pin is both the supply voltage for internal control circuitry and one end of the high current switch. It is important, especially at low input voltages, that this pin be bypassed with a low ESR, and low inductance (See Datasheet)", 6 TAB (power) "It might seem unusual to describe a ground pin, but in the case of regulators, the ground pin must be connected properly to ensure good load regulation. The internal reference voltage is referenced to the ground pin; so any (See Datasheet)"

## LT1076CQ#TR
designator U?
Step-Down Switching Regulator, 5-pin DPAK (Q-5), 0 to 70 degC, Tape and Reel; Manufacturer: Linear Technology; PartNumber: LT1076CQ#TR; Number of Outputs: 1; DatasheetVersion: Rev. D; PackageVersion: Rev. F, 09/2011; PackageReference: Q-5; PackageDescription: 5-Pin Plastic DD Pak, Body 10.2235 x 8.89 mm, Pitch 1.702 mm; Supplier 1: Digi-Key; Supplier Part Number 1: LT1076CQ#TR-ND; Packing: Tape and Reel; RoHS: FALSE; Mounting Technology: Surface Mount; ComponentLink1Description: Manufacturer URL; ComponentLink1URL: http://www.linear.com/; ComponentLink2Description: Datasheet; ComponentLink2URL: http://cds.linear.com/docs/en/datasheet/1074fds.pdf; ComponentLink3Description: Package Specification; ComponentLink3URL: http://cds.linear.com/docs/en/packaging/Q%20DD5%2005-08-1461%20Rev%20F.pdf
footprint LT-Q-5_N (DPAK, 5-Leads, Body 10.22x8.89mm, Pitch 1.702mm, IPC Medium Density)
footprint LT-Q-5_L (DPAK, 5-Leads, Body 10.22x8.89mm, Pitch 1.702mm, IPC High Density)
footprint LT-Q-5_M (DPAK, 5-Leads, Body 10.22x8.89mm, Pitch 1.702mm, IPC Low Density)
pins: 1 FB/SENSE (in), 2 VC, 3 GND (power) "It might seem unusual to describe a ground pin, but in the case of regulators, the ground pin must be connected properly to ensure good load regulation. The internal reference voltage is referenced to the ground pin; so any (See Datasheet)", 4 VSW (power), 5 VIN (power) "The VIN pin is both the supply voltage for internal control circuitry and one end of the high current switch. It is important, especially at low input voltages, that this pin be bypassed with a low ESR, and low inductance (See Datasheet)", 6 TAB (power) "It might seem unusual to describe a ground pin, but in the case of regulators, the ground pin must be connected properly to ensure good load regulation. The internal reference voltage is referenced to the ground pin; so any (See Datasheet)"